# Altium integrated library Resistors.IntLib: 4954 symbols (part 8 of 32)
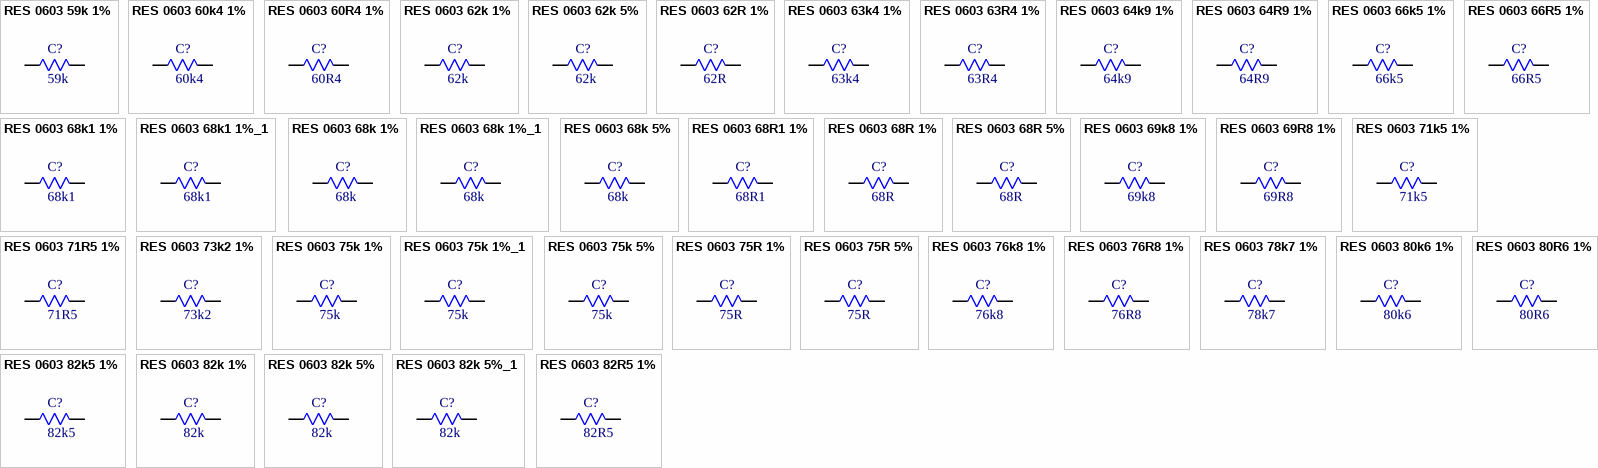
[diagram p130: symbols RES 0603 59k 1% to RES 0603 82R5 1%]

## RES 0603 82k 1%
designator C?, comment 82k
82kR 1% 100mW 0603 Thick Film Resistor; Manufacturer: FOJAN; Manufacturer Part Number: FRC0603F8202TS; Voltage Rating: 75V; Supplier: LCSC; Supplier Part Number: C2907072; Resistance: 82k; Tolerance: 1%; Power: 100mW
footprint RES SMD 0603
pins: 1, 2

## RES 0603 82k 5%
designator C?, comment 82k
82kR 5% 100mW 0603 Thick Film Resistor; Manufacturer: FOJAN; Manufacturer Part Number: FRC0603J823 TS; Voltage Rating: 75V; Supplier: LCSC; Supplier Part Number: C2907208; Resistance: 82k; Tolerance: 5%; Power: 100mW
footprint RES SMD 0603
pins: 1, 2

## RES 0603 82k 5%_1
designator C?, comment 82k
100mW 82kR 75V Thick Film Resistor 100ppm/â„ƒ 5% 0603 Chip Resistor - Surface Mount RoHS; Manufacturer: FOJAN; Manufacturer Part Number: FRR0603J823 TS; Supplier: LCSC; Supplier Part Number: C49196819; Resistance: 82k; Tolerance: 5%; Voltage Rating: 75V; Power: 100mW
footprint RES SMD 0603
pins: 1, 2

## RES 0603 82R5 1%
designator C?, comment 82R5
82.5R 1% 100mW 0603 Thick Film Resistor; Manufacturer: FOJAN; Manufacturer Part Number: FRC0603F82R5TS; Voltage Rating: 75V; Supplier: LCSC; Supplier Part Number: C3013207; Resistance: 82R5; Tolerance: 1%; Power: 100mW
footprint RES SMD 0603
pins: 1, 2

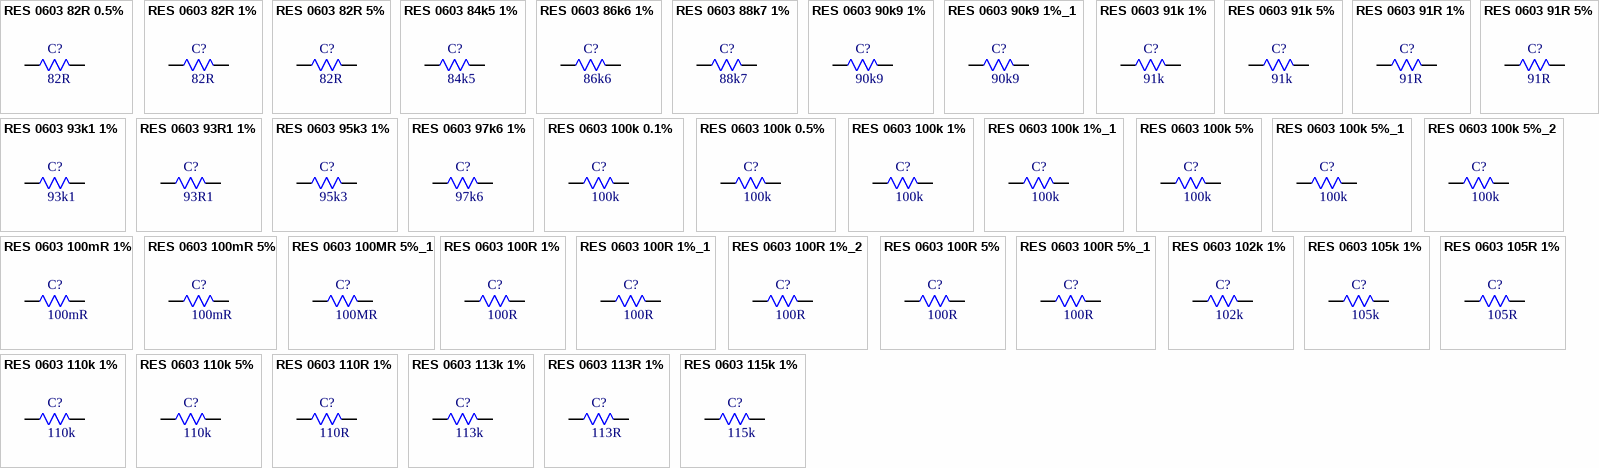
[diagram p28: symbols RES 0603 82R 0.5% to RES 0603 115k 1%]

## RES 0603 82R 0.5%
designator C?, comment 82R
100mW 82R 75V Thick Film Resistor 0.5% 0603 Chip Resistor - Surface Mount RoHS; Manufacturer: FOJAN; Manufacturer Part Number: FRH0603D82R0TS; Supplier: LCSC; Supplier Part Number: C52033556; Resistance: 82R; Tolerance: 0.5%; Voltage Rating: 75V; Power: 100mW
footprint RES SMD 0603
pins: 1, 2

## RES 0603 82R 1%
designator C?, comment 82R
82R 1% 100mW 0603 Thick Film Resistor; Manufacturer: FOJAN; Manufacturer Part Number: FRC0603F82R0TS; Voltage Rating: 75V; Supplier: LCSC; Supplier Part Number: C2907073; Resistance: 82R; Tolerance: 1%; Power: 100mW
footprint RES SMD 0603
pins: 1, 2

## RES 0603 82R 5%
designator C?, comment 82R
82R 5% 100mW 0603 Thick Film Resistor; Manufacturer: FOJAN; Manufacturer Part Number: FRC0603J820 TS; Voltage Rating: 75V; Supplier: LCSC; Supplier Part Number: C2907209; Resistance: 82R; Tolerance: 5%; Power: 100mW
footprint RES SMD 0603
pins: 1, 2

## RES 0603 84k5 1%
designator C?, comment 84k5
84.5kR 1% 100mW 0603 Thick Film Resistor; Manufacturer: FOJAN; Manufacturer Part Number: FRC0603F8452TS; Voltage Rating: 75V; Supplier: LCSC; Supplier Part Number: C2998081; Resistance: 84k5; Tolerance: 1%; Power: 100mW
footprint RES SMD 0603
pins: 1, 2

## RES 0603 86k6 1%
designator C?, comment 86k6
86.6kR 1% 100mW 0603 Thick Film Resistor; Manufacturer: FOJAN; Manufacturer Part Number: FRC0603F8662TS; Voltage Rating: 75V; Supplier: LCSC; Supplier Part Number: C3000725; Resistance: 86k6; Tolerance: 1%; Power: 100mW
footprint RES SMD 0603
pins: 1, 2

## RES 0603 88k7 1%
designator C?, comment 88k7
88.7kR 1% 100mW 0603 Thick Film Resistor; Manufacturer: FOJAN; Manufacturer Part Number: FRC0603F8872TS; Voltage Rating: 75V; Supplier: LCSC; Supplier Part Number: C2999456; Resistance: 88k7; Tolerance: 1%; Power: 100mW
footprint RES SMD 0603
pins: 1, 2

## RES 0603 90k9 1%
designator C?, comment 90k9
90.9kR 1% 100mW 0603 Thick Film Resistor; Manufacturer: FOJAN; Manufacturer Part Number: FRC0603F9092TS; Voltage Rating: 75V; Supplier: LCSC; Supplier Part Number: C2930136; Resistance: 90k9; Tolerance: 1%; Power: 100mW
footprint RES SMD 0603
pins: 1, 2

## RES 0603 90k9 1%_1
designator C?, comment 90k9
90.9kR 100mW 75V Thick Film Resistor 100ppm/â„ƒ 1% 0603 Chip Resistor - Surface Mount RoHS; Manufacturer: FOJAN; Manufacturer Part Number: FRQ0603F9092TS; Supplier: LCSC; Supplier Part Number: C48533780; Resistance: 90k9; Tolerance: 1%; Voltage Rating: 75V; Power: 100mW
footprint RES SMD 0603
pins: 1, 2

## RES 0603 91k 1%
designator C?, comment 91k
91kR 1% 100mW 0603 Thick Film Resistor; Manufacturer: FOJAN; Manufacturer Part Number: FRC0603F9102TS; Voltage Rating: 75V; Supplier: LCSC; Supplier Part Number: C2907077; Resistance: 91k; Tolerance: 1%; Power: 100mW
footprint RES SMD 0603
pins: 1, 2

## RES 0603 91k 5%
designator C?, comment 91k
91kR 5% 100mW 0603 Thick Film Resistor; Manufacturer: FOJAN; Manufacturer Part Number: FRC0603J913 TS; Voltage Rating: 75V; Supplier: LCSC; Supplier Part Number: C2907213; Resistance: 91k; Tolerance: 5%; Power: 100mW
footprint RES SMD 0603
pins: 1, 2

## RES 0603 91R 1%
designator C?, comment 91R
91R 1% 100mW 0603 Thick Film Resistor; Manufacturer: FOJAN; Manufacturer Part Number: FRC0603F91R0TS; Voltage Rating: 75V; Supplier: LCSC; Supplier Part Number: C2960792; Resistance: 91R; Tolerance: 1%; Power: 100mW
footprint RES SMD 0603
pins: 1, 2

## RES 0603 91R 5%
designator C?, comment 91R
91R 5% 100mW 0603 Thick Film Resistor; Manufacturer: FOJAN; Manufacturer Part Number: FRC0603J910 TS; Voltage Rating: 75V; Supplier: LCSC; Supplier Part Number: C2907214; Resistance: 91R; Tolerance: 5%; Power: 100mW
footprint RES SMD 0603
pins: 1, 2

## RES 0603 93k1 1%
designator C?, comment 93k1
93.1kR 1% 100mW 0603 Thick Film Resistor; Manufacturer: FOJAN; Manufacturer Part Number: FRC0603F9312TS; Voltage Rating: 75V; Supplier: LCSC; Supplier Part Number: C2933266; Resistance: 93k1; Tolerance: 1%; Power: 100mW
footprint RES SMD 0603
pins: 1, 2

## RES 0603 93R1 1%
designator C?, comment 93R1
93.1R 1% 100mW 0603 Thick Film Resistor; Manufacturer: FOJAN; Manufacturer Part Number: FRC0603F93R1TS; Voltage Rating: 75V; Supplier: LCSC; Supplier Part Number: C2930137; Resistance: 93R1; Tolerance: 1%; Power: 100mW
footprint RES SMD 0603
pins: 1, 2

## RES 0603 95k3 1%
designator C?, comment 95k3
95.3kR 1% 100mW 0603 Thick Film Resistor; Manufacturer: FOJAN; Manufacturer Part Number: FRC0603F9532TS; Voltage Rating: 75V; Supplier: LCSC; Supplier Part Number: C2907078; Resistance: 95k3; Tolerance: 1%; Power: 100mW
footprint RES SMD 0603
pins: 1, 2

## RES 0603 97k6 1%
designator C?, comment 97k6
97.6kR 1% 100mW 0603 Thick Film Resistor; Manufacturer: FOJAN; Manufacturer Part Number: FRC0603F9762TS; Voltage Rating: 75V; Supplier: LCSC; Supplier Part Number: C2907079; Resistance: 97k6; Tolerance: 1%; Power: 100mW
footprint RES SMD 0603
pins: 1, 2

## RES 0603 100k 0.1%
designator C?, comment 100k
100mW 100kR 75V Thick Film Resistor 0.1% 0603 Chip Resistor - Surface Mount RoHS; Manufacturer: FOJAN; Manufacturer Part Number: FRH0603B1003TS; Supplier: LCSC; Supplier Part Number: C51048211; Resistance: 100k; Tolerance: 0.1%; Voltage Rating: 75V; Power: 100mW
footprint RES SMD 0603
pins: 1, 2

## RES 0603 100k 0.5%
designator C?, comment 100k
100mW 100kR 75V Thick Film Resistor 0.5% 0603 Chip Resistor - Surface Mount RoHS; Manufacturer: FOJAN; Manufacturer Part Number: FRH0603D1003TS; Supplier: LCSC; Supplier Part Number: C51048119; Resistance: 100k; Tolerance: 0.5%; Voltage Rating: 75V; Power: 100mW
footprint RES SMD 0603
pins: 1, 2

## RES 0603 100k 1%
designator C?, comment 100k
100kR 1% 100mW 0603 Thick Film Resistor; Manufacturer: FOJAN; Manufacturer Part Number: FRC0603F1003TS; Voltage Rating: 75V; Supplier: LCSC; Supplier Part Number: C2906980; Resistance: 100k; Tolerance: 1%; Power: 100mW
footprint RES SMD 0603
pins: 1, 2

## RES 0603 100k 1%_1
designator C?, comment 100k
100mW 100kR Thick Film Resistor 1% 100ppm/â„ƒ 0603 Chip Resistor - Surface Mount RoHS; Manufacturer: FOJAN; Manufacturer Part Number: FRQ0603F1003TS; Supplier: LCSC; Supplier Part Number: C7468513; Resistance: 100k; Tolerance: 1%; Power: 100mW
footprint RES SMD 0603
pins: 1, 2

## RES 0603 100k 5%
designator C?, comment 100k
100kR 5% 100mW 0603 Thick Film Resistor AEC-Q200; Manufacturer: FOJAN; Manufacturer Part Number: FRQ0603J104 TS; Voltage Rating: 75V; Supplier: LCSC; Supplier Part Number: C2934392; Resistance: 100k; Tolerance: 5%; Power: 100mW
footprint RES SMD 0603
pins: 1, 2

## RES 0603 100k 5%_1
designator C?, comment 100k
100kR 5% 100mW 0603 Thick Film Resistor; Manufacturer: FOJAN; Manufacturer Part Number: FRC0603J104 TS; Voltage Rating: 75V; Supplier: LCSC; Supplier Part Number: C2907088; Resistance: 100k; Tolerance: 5%; Power: 100mW
footprint RES SMD 0603
pins: 1, 2

## RES 0603 100k 5%_2
designator C?, comment 100k
100mW 100kR 75V Thick Film Resistor 100ppm/â„ƒ 5% 0603 Chip Resistor - Surface Mount RoHS; Manufacturer: FOJAN; Manufacturer Part Number: FRR0603J104 TS; Supplier: LCSC; Supplier Part Number: C49196787; Resistance: 100k; Tolerance: 5%; Voltage Rating: 75V; Power: 100mW
footprint RES SMD 0603
pins: 1, 2

## RES 0603 100mR 1%
designator C?, comment 100mR
100mR 1% 100mW 0603 Thick Film Resistor; Manufacturer: FOJAN; Manufacturer Part Number: FRL0603FR100TS; Voltage Rating: 100V; Supplier: LCSC; Supplier Part Number: C3013345; Resistance: 100mR; Tolerance: 1%; Power: 100mW
footprint RES SMD 0603
pins: 1, 2

## RES 0603 100mR 5%
designator C?, comment 100mR
100mR 5% 100mW 0603 Thick Film Resistor; Manufacturer: FOJAN; Manufacturer Part Number: FRL0603JR100TS; Voltage Rating: 100V; Supplier: LCSC; Supplier Part Number: C2934255; Resistance: 100mR; Tolerance: 5%; Power: 100mW
footprint RES SMD 0603
pins: 1, 2

## RES 0603 100MR 5%_1
designator C?, comment 100MR
100mW 100MR Thick Film Resistor 200ppm/â„ƒ 5% 0603 Chip Resistor - Surface Mount RoHS; Manufacturer: FOJAN; Manufacturer Part Number: FRG0603J107 TS; Supplier: LCSC; Supplier Part Number: C7468687; Resistance: 100MR; Tolerance: 5%; Power: 100mW
footprint RES SMD 0603
pins: 1, 2

## RES 0603 100R 1%
designator C?, comment 100R
100R 1% 100mW 0603 Thick Film Resistor; Manufacturer: FOJAN; Manufacturer Part Number: FRC0603F1000TS; Voltage Rating: 75V; Supplier: LCSC; Supplier Part Number: C2906981; Resistance: 100R; Tolerance: 1%; Power: 100mW
footprint RES SMD 0603
pins: 1, 2

## RES 0603 100R 1%_1
designator C?, comment 100R
200mW 100R Thick Film Resistor 100ppm/â„ƒ 1% 0603 Chip Resistor - Surface Mount RoHS; Manufacturer: FOJAN; Manufacturer Part Number: FRP0603F1000TS; Supplier: LCSC; Supplier Part Number: C42372212; Resistance: 100R; Tolerance: 1%; Power: 200mW
footprint RES SMD 0603
pins: 1, 2

## RES 0603 100R 1%_2
designator C?, comment 100R
100mW 100R 75V Thick Film Resistor 1% 0603 Chip Resistor - Surface Mount RoHS; Manufacturer: FOJAN; Manufacturer Part Number: FRR0603F1000TS; Supplier: LCSC; Supplier Part Number: C51048231; Resistance: 100R; Tolerance: 1%; Voltage Rating: 75V; Power: 100mW
footprint RES SMD 0603
pins: 1, 2

## RES 0603 100R 5%
designator C?, comment 100R
100mW 100R 75V Thick Film Resistor 5% 100ppm/â„ƒ 0603 Chip Resistor - Surface Mount RoHS; Manufacturer: FOJAN; Manufacturer Part Number: FRQ0603J101 TS; Supplier: LCSC; Supplier Part Number: C7468429; Resistance: 100R; Tolerance: 5%; Voltage Rating: 75V; Power: 100mW
footprint RES SMD 0603
pins: 1, 2

## RES 0603 100R 5%_1
designator C?, comment 100R
100R 100mW 75V Thick Film Resistor 100ppm/â„ƒ 5% 0603 Chip Resistor - Surface Mount RoHS; Manufacturer: FOJAN; Manufacturer Part Number: FRR0603J101 TS; Supplier: LCSC; Supplier Part Number: C49196788; Resistance: 100R; Tolerance: 5%; Voltage Rating: 75V; Power: 100mW
footprint RES SMD 0603
pins: 1, 2

## RES 0603 102k 1%
designator C?, comment 102k
102kR 1% 100mW 0603 Thick Film Resistor; Manufacturer: FOJAN; Manufacturer Part Number: FRC0603F1023TS; Voltage Rating: 75V; Supplier: LCSC; Supplier Part Number: C2933126; Resistance: 102k; Tolerance: 1%; Power: 100mW
footprint RES SMD 0603
pins: 1, 2

## RES 0603 105k 1%
designator C?, comment 105k
105kR 1% 100mW 0603 Thick Film Resistor; Manufacturer: FOJAN; Manufacturer Part Number: FRC0603F1053TS; Voltage Rating: 75V; Supplier: LCSC; Supplier Part Number: C2933128; Resistance: 105k; Tolerance: 1%; Power: 100mW
footprint RES SMD 0603
pins: 1, 2

## RES 0603 105R 1%
designator C?, comment 105R
105R 1% 100mW 0603 Thick Film Resistor; Manufacturer: FOJAN; Manufacturer Part Number: FRC0603F1050TS; Voltage Rating: 75V; Supplier: LCSC; Supplier Part Number: C2930055; Resistance: 105R; Tolerance: 1%; Power: 100mW
footprint RES SMD 0603
pins: 1, 2

## RES 0603 110k 1%
designator C?, comment 110k
110kR 1% 100mW 0603 Thick Film Resistor; Manufacturer: FOJAN; Manufacturer Part Number: FRC0603F1103TS; Voltage Rating: 75V; Supplier: LCSC; Supplier Part Number: C2906984; Resistance: 110k; Tolerance: 1%; Power: 100mW
footprint RES SMD 0603
pins: 1, 2

## RES 0603 110k 5%
designator C?, comment 110k
110kR 5% 100mW 0603 Thick Film Resistor; Manufacturer: FOJAN; Manufacturer Part Number: FRC0603J114TS; Voltage Rating: 75V; Supplier: LCSC; Supplier Part Number: C2930028; Resistance: 110k; Tolerance: 5%; Power: 100mW
footprint RES SMD 0603
pins: 1, 2

## RES 0603 110R 1%
designator C?, comment 110R
110R 1% 100mW 0603 Thick Film Resistor; Manufacturer: FOJAN; Manufacturer Part Number: FRC0603F1100TS; Voltage Rating: 75V; Supplier: LCSC; Supplier Part Number: C2906985; Resistance: 110R; Tolerance: 1%; Power: 100mW
footprint RES SMD 0603
pins: 1, 2

## RES 0603 113k 1%
designator C?, comment 113k
113kR 1% 100mW 0603 Thick Film Resistor; Manufacturer: FOJAN; Manufacturer Part Number: FRC0603F1133TS; Voltage Rating: 75V; Supplier: LCSC; Supplier Part Number: C2933131; Resistance: 113k; Tolerance: 1%; Power: 100mW
footprint RES SMD 0603
pins: 1, 2

## RES 0603 113R 1%
designator C?, comment 113R
100mW 113R 75V Thick Film Resistor 100ppm/â„ƒ 1% 0603 Chip Resistor - Surface Mount RoHS; Manufacturer: FOJAN; Manufacturer Part Number: FRC0603F1130TS; Supplier: LCSC; Supplier Part Number: C49010135; Resistance: 113R; Tolerance: 1%; Voltage Rating: 75V; Power: 100mW
footprint RES SMD 0603
pins: 1, 2

## RES 0603 115k 1%
designator C?, comment 115k
115kR 1% 100mW 0603 Thick Film Resistor; Manufacturer: FOJAN; Manufacturer Part Number: FRC0603F1153TS; Voltage Rating: 75V; Supplier: LCSC; Supplier Part Number: C2933132; Resistance: 115k; Tolerance: 1%; Power: 100mW
footprint RES SMD 0603
pins: 1, 2

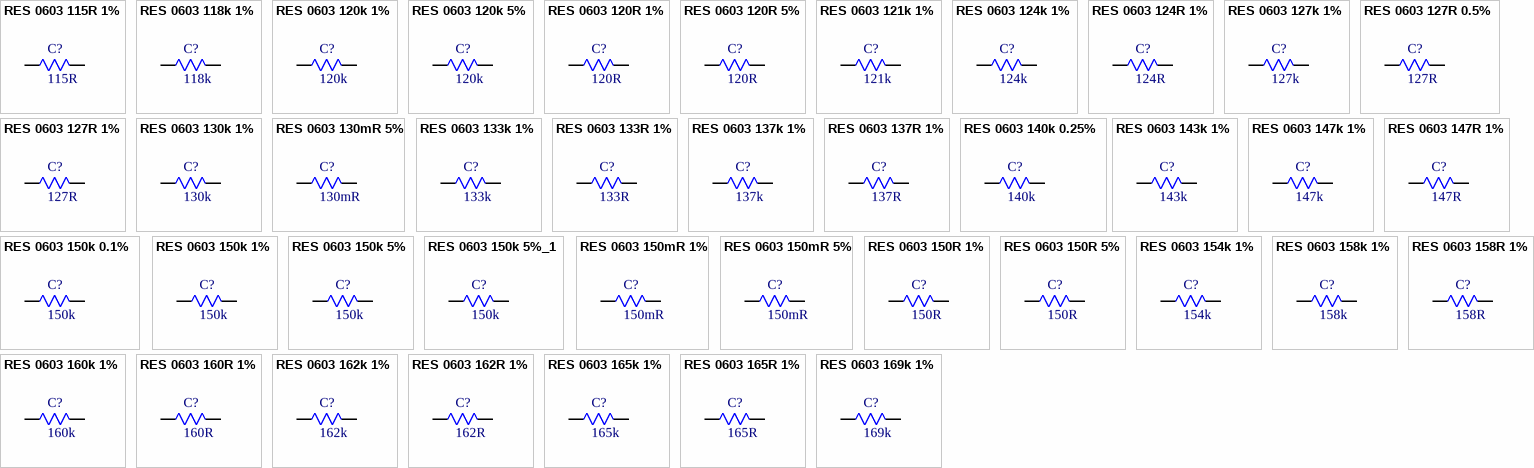
[diagram p29: symbols RES 0603 115R 1% to RES 0603 169k 1%]

## RES 0603 115R 1%
designator C?, comment 115R
115R 100mW 75V Thick Film Resistor 1% 100ppm/â„ƒ 0603 Chip Resistor - Surface Mount RoHS; Manufacturer: FOJAN; Manufacturer Part Number: FRC0603F1150TS; Supplier: LCSC; Supplier Part Number: C7467328; Resistance: 115R; Tolerance: 1%; Voltage Rating: 75V; Power: 100mW
footprint RES SMD 0603
pins: 1, 2

## RES 0603 118k 1%
designator C?, comment 118k
118kR 1% 100mW 0603 Thick Film Resistor; Manufacturer: FOJAN; Manufacturer Part Number: FRC0603F1183TS; Voltage Rating: 75V; Supplier: LCSC; Supplier Part Number: C5126230; Resistance: 118k; Tolerance: 1%; Power: 100mW
footprint RES SMD 0603
pins: 1, 2

## RES 0603 120k 1%
designator C?, comment 120k
120kR 1% 100mW 0603 Thick Film Resistor; Manufacturer: FOJAN; Manufacturer Part Number: FRC0603F1203TS; Voltage Rating: 75V; Supplier: LCSC; Supplier Part Number: C2906987; Resistance: 120k; Tolerance: 1%; Power: 100mW
footprint RES SMD 0603
pins: 1, 2

## RES 0603 120k 5%
designator C?, comment 120k
120kR 5% 100mW 0603 Thick Film Resistor; Manufacturer: FOJAN; Manufacturer Part Number: FRC0603J124 TS; Voltage Rating: 75V; Supplier: LCSC; Supplier Part Number: C2907095; Resistance: 120k; Tolerance: 5%; Power: 100mW
footprint RES SMD 0603
pins: 1, 2

## RES 0603 120R 1%
designator C?, comment 120R
120R 1% 100mW 0603 Thick Film Resistor; Manufacturer: FOJAN; Manufacturer Part Number: FRC0603F1200TS; Voltage Rating: 75V; Supplier: LCSC; Supplier Part Number: C2906988; Resistance: 120R; Tolerance: 1%; Power: 100mW
footprint RES SMD 0603
pins: 1, 2

## RES 0603 120R 5%
designator C?, comment 120R
120R 5% 100mW 0603 Thick Film Resistor; Manufacturer: FOJAN; Manufacturer Part Number: FRC0603J121 TS; Voltage Rating: 75V; Supplier: LCSC; Supplier Part Number: C2907096; Resistance: 120R; Tolerance: 5%; Power: 100mW
footprint RES SMD 0603
pins: 1, 2

## RES 0603 121k 1%
designator C?, comment 121k
121kR 1% 100mW 0603 Thick Film Resistor; Manufacturer: FOJAN; Manufacturer Part Number: FRC0603F1213TS; Voltage Rating: 75V; Supplier: LCSC; Supplier Part Number: C2974025; Resistance: 121k; Tolerance: 1%; Power: 100mW
footprint RES SMD 0603
pins: 1, 2

## RES 0603 124k 1%
designator C?, comment 124k
124kR 1% 100mW 0603 Thick Film Resistor; Manufacturer: FOJAN; Manufacturer Part Number: FRC0603F1243TS; Voltage Rating: 75V; Supplier: LCSC; Supplier Part Number: C2933136; Resistance: 124k; Tolerance: 1%; Power: 100mW
footprint RES SMD 0603
pins: 1, 2

## RES 0603 124R 1%
designator C?, comment 124R
124R 1% 100mW 0603 Thick Film Resistor; Manufacturer: FOJAN; Manufacturer Part Number: FRC0603F1240TS; Voltage Rating: 75V; Supplier: LCSC; Supplier Part Number: C2998112; Resistance: 124R; Tolerance: 1%; Power: 100mW
footprint RES SMD 0603
pins: 1, 2

## RES 0603 127k 1%
designator C?, comment 127k
127kR 1% 100mW 0603 Thick Film Resistor; Manufacturer: FOJAN; Manufacturer Part Number: FRC0603F1273TS; Voltage Rating: 75V; Supplier: LCSC; Supplier Part Number: C2930062; Resistance: 127k; Tolerance: 1%; Power: 100mW
footprint RES SMD 0603
pins: 1, 2

## RES 0603 127R 0.5%
designator C?, comment 127R
127R 100mW 75V Thick Film Resistor 0.5% 0603 Chip Resistor - Surface Mount RoHS; Manufacturer: FOJAN; Manufacturer Part Number: FRH0603D1270TS; Supplier: LCSC; Supplier Part Number: C52033535; Resistance: 127R; Tolerance: 0.5%; Voltage Rating: 75V; Power: 100mW
footprint RES SMD 0603
pins: 1, 2

## RES 0603 127R 1%
designator C?, comment 127R
127R 1% 100mW 0603 Thick Film Resistor; Manufacturer: FOJAN; Manufacturer Part Number: FRC0603F1270TS; Voltage Rating: 75V; Supplier: LCSC; Supplier Part Number: C2930063; Resistance: 127R; Tolerance: 1%; Power: 100mW
footprint RES SMD 0603
pins: 1, 2

## RES 0603 130k 1%
designator C?, comment 130k
130kR 1% 100mW 0603 Thick Film Resistor; Manufacturer: FOJAN; Manufacturer Part Number: FRC0603F1303TS; Voltage Rating: 75V; Supplier: LCSC; Supplier Part Number: C2906991; Resistance: 130k; Tolerance: 1%; Power: 100mW
footprint RES SMD 0603
pins: 1, 2

## RES 0603 130mR 5%
designator C?, comment 130mR
130mR 100mW Thick Film Resistor 5% 600ppm/â„ƒ 0603 Chip Resistor - Surface Mount RoHS; Manufacturer: FOJAN; Manufacturer Part Number: FRL0603JR130TS; Supplier: LCSC; Supplier Part Number: C7467759; Resistance: 130mR; Tolerance: 5%; Power: 100mW
footprint RES SMD 0603
pins: 1, 2

## RES 0603 133k 1%
designator C?, comment 133k
133kR 1% 100mW 0603 Thick Film Resistor; Manufacturer: FOJAN; Manufacturer Part Number: FRC0603F1333TS; Voltage Rating: 75V; Supplier: LCSC; Supplier Part Number: C2933141; Resistance: 133k; Tolerance: 1%; Power: 100mW
footprint RES SMD 0603
pins: 1, 2

## RES 0603 133R 1%
designator C?, comment 133R
133R 1% 100mW 0603 Thick Film Resistor; Manufacturer: FOJAN; Manufacturer Part Number: FRC0603F1330TS; Voltage Rating: 75V; Supplier: LCSC; Supplier Part Number: C5126161; Resistance: 133R; Tolerance: 1%; Power: 100mW
footprint RES SMD 0603
pins: 1, 2

## RES 0603 137k 1%
designator C?, comment 137k
137kR 1% 100mW 0603 Thick Film Resistor; Manufacturer: FOJAN; Manufacturer Part Number: FRC0603F1373TS; Voltage Rating: 75V; Supplier: LCSC; Supplier Part Number: C2998109; Resistance: 137k; Tolerance: 1%; Power: 100mW
footprint RES SMD 0603
pins: 1, 2

## RES 0603 137R 1%
designator C?, comment 137R
137R 1% 100mW 0603 Thick Film Resistor; Manufacturer: FOJAN; Manufacturer Part Number: FRC0603F1370TS; Voltage Rating: 75V; Supplier: LCSC; Supplier Part Number: C5159696; Resistance: 137R; Tolerance: 1%; Power: 100mW
footprint RES SMD 0603
pins: 1, 2

## RES 0603 140k 0.25%
designator C?, comment 140k
100mW 140kR Thick Film Resistor 100ppm/â„ƒ 0.25% 0603 Chip Resistor - Surface Mount RoHS; Manufacturer: FOJAN; Manufacturer Part Number: FRH0603D1403TS; Supplier: LCSC; Supplier Part Number: C42372204; Resistance: 140k; Tolerance: 0.25%; Power: 100mW
footprint RES SMD 0603
pins: 1, 2

## RES 0603 143k 1%
designator C?, comment 143k
143kR 1% 100mW 0603 Thick Film Resistor; Manufacturer: FOJAN; Manufacturer Part Number: FRC0603F1433TS; Voltage Rating: 75V; Supplier: LCSC; Supplier Part Number: C2933146; Resistance: 143k; Tolerance: 1%; Power: 100mW
footprint RES SMD 0603
pins: 1, 2

## RES 0603 147k 1%
designator C?, comment 147k
147kR 1% 100mW 0603 Thick Film Resistor; Manufacturer: FOJAN; Manufacturer Part Number: FRC0603F1473TS; Voltage Rating: 75V; Supplier: LCSC; Supplier Part Number: C2998060; Resistance: 147k; Tolerance: 1%; Power: 100mW
footprint RES SMD 0603
pins: 1, 2

## RES 0603 147R 1%
designator C?, comment 147R
147R 1% 100mW 0603 Thick Film Resistor; Manufacturer: FOJAN; Manufacturer Part Number: FRC0603F1470TS; Voltage Rating: 75V; Supplier: LCSC; Supplier Part Number: C2930065; Resistance: 147R; Tolerance: 1%; Power: 100mW
footprint RES SMD 0603
pins: 1, 2

## RES 0603 150k 0.1%
designator C?, comment 150k
150kR 0.1% 100mW 0603 Thick Film Resistor; Manufacturer: FOJAN; Manufacturer Part Number: FRH0603B1503TS; Voltage Rating: 75V; Supplier: LCSC; Supplier Part Number: C5713384; Resistance: 150k; Tolerance: 0.1%; Power: 100mW
footprint RES SMD 0603
pins: 1, 2

## RES 0603 150k 1%
designator C?, comment 150k
150kR 1% 100mW 0603 Thick Film Resistor; Manufacturer: FOJAN; Manufacturer Part Number: FRC0603F1503TS; Voltage Rating: 75V; Supplier: LCSC; Supplier Part Number: C2906993; Resistance: 150k; Tolerance: 1%; Power: 100mW
footprint RES SMD 0603
pins: 1, 2

## RES 0603 150k 5%
designator C?, comment 150k
150kR 5% 100mW 0603 Thick Film Resistor; Manufacturer: FOJAN; Manufacturer Part Number: FRC0603J154 TS; Voltage Rating: 75V; Supplier: LCSC; Supplier Part Number: C2907102; Resistance: 150k; Tolerance: 5%; Power: 100mW
footprint RES SMD 0603
pins: 1, 2

## RES 0603 150k 5%_1
designator C?, comment 150k
150kR 100mW 75V Thick Film Resistor 100ppm/â„ƒ 5% 0603 Chip Resistor - Surface Mount RoHS; Manufacturer: FOJAN; Manufacturer Part Number: FRR0603J154 TS; Supplier: LCSC; Supplier Part Number: C49196791; Resistance: 150k; Tolerance: 5%; Voltage Rating: 75V; Power: 100mW
footprint RES SMD 0603
pins: 1, 2

## RES 0603 150mR 1%
designator C?, comment 150mR
150mR 1% 100mW 0603 Thick Film Resistor; Manufacturer: FOJAN; Manufacturer Part Number: FRL0603FR150TS; Voltage Rating: 100V; Supplier: LCSC; Supplier Part Number: C5126016; Resistance: 150mR; Tolerance: 1%; Power: 100mW
footprint RES SMD 0603
pins: 1, 2

## RES 0603 150mR 5%
designator C?, comment 150mR
150mR 100mW Thick Film Resistor 5% 600ppm/â„ƒ 0603 Chip Resistor - Surface Mount RoHS; Manufacturer: FOJAN; Manufacturer Part Number: FRL0603JR150TS; Supplier: LCSC; Supplier Part Number: C7467755; Resistance: 150mR; Tolerance: 5%; Power: 100mW
footprint RES SMD 0603
pins: 1, 2

## RES 0603 150R 1%
designator C?, comment 150R
150R 1% 100mW 0603 Thick Film Resistor; Manufacturer: FOJAN; Manufacturer Part Number: FRC0603F1500TS; Voltage Rating: 75V; Supplier: LCSC; Supplier Part Number: C2906994; Resistance: 150R; Tolerance: 1%; Power: 100mW
footprint RES SMD 0603
pins: 1, 2

## RES 0603 150R 5%
designator C?, comment 150R
150R 5% 100mW 0603 Thick Film Resistor; Manufacturer: FOJAN; Manufacturer Part Number: FRC0603J151 TS; Voltage Rating: 75V; Supplier: LCSC; Supplier Part Number: C2907103; Resistance: 150R; Tolerance: 5%; Power: 100mW
footprint RES SMD 0603
pins: 1, 2

## RES 0603 154k 1%
designator C?, comment 154k
154kR 1% 100mW 0603 Thick Film Resistor; Manufacturer: FOJAN; Manufacturer Part Number: FRC0603F1543TS; Voltage Rating: 75V; Supplier: LCSC; Supplier Part Number: C5713279; Resistance: 154k; Tolerance: 1%; Power: 100mW
footprint RES SMD 0603
pins: 1, 2

## RES 0603 158k 1%
designator C?, comment 158k
158kR 1% 100mW 0603 Thick Film Resistor; Manufacturer: FOJAN; Manufacturer Part Number: FRC0603F1583TS; Voltage Rating: 75V; Supplier: LCSC; Supplier Part Number: C2974029; Resistance: 158k; Tolerance: 1%; Power: 100mW
footprint RES SMD 0603
pins: 1, 2

## RES 0603 158R 1%
designator C?, comment 158R
158R 1% 100mW 0603 Thick Film Resistor; Manufacturer: FOJAN; Manufacturer Part Number: FRC0603F1580TS; Voltage Rating: 75V; Supplier: LCSC; Supplier Part Number: C2933151; Resistance: 158R; Tolerance: 1%; Power: 100mW
footprint RES SMD 0603
pins: 1, 2

## RES 0603 160k 1%
designator C?, comment 160k
160kR 1% 100mW 0603 Thick Film Resistor; Manufacturer: FOJAN; Manufacturer Part Number: FRC0603F1603TS; Voltage Rating: 75V; Supplier: LCSC; Supplier Part Number: C2930068; Resistance: 160k; Tolerance: 1%; Power: 100mW
footprint RES SMD 0603
pins: 1, 2

## RES 0603 160R 1%
designator C?, comment 160R
160R 1% 100mW 0603 Thick Film Resistor; Manufacturer: FOJAN; Manufacturer Part Number: FRC0603F1600TS; Voltage Rating: 75V; Supplier: LCSC; Supplier Part Number: C2933152; Resistance: 160R; Tolerance: 1%; Power: 100mW
footprint RES SMD 0603
pins: 1, 2

## RES 0603 162k 1%
designator C?, comment 162k
162kR 1% 100mW 0603 Thick Film Resistor; Manufacturer: FOJAN; Manufacturer Part Number: FRC0603F1623TS; Voltage Rating: 75V; Supplier: LCSC; Supplier Part Number: C2998114; Resistance: 162k; Tolerance: 1%; Power: 100mW
footprint RES SMD 0603
pins: 1, 2

## RES 0603 162R 1%
designator C?, comment 162R
162R 100mW 75V Thick Film Resistor 1% 100ppm/â„ƒ 0603 Chip Resistor - Surface Mount RoHS; Manufacturer: FOJAN; Manufacturer Part Number: FRC0603F1620TS; Supplier: LCSC; Supplier Part Number: C19268613; Resistance: 162R; Tolerance: 1%; Voltage Rating: 75V; Power: 100mW
footprint RES SMD 0603
pins: 1, 2

## RES 0603 165k 1%
designator C?, comment 165k
165kR 1% 100mW 0603 Thick Film Resistor; Manufacturer: FOJAN; Manufacturer Part Number: FRC0603F1653TS; Voltage Rating: 75V; Supplier: LCSC; Supplier Part Number: C2933156; Resistance: 165k; Tolerance: 1%; Power: 100mW
footprint RES SMD 0603
pins: 1, 2

## RES 0603 165R 1%
designator C?, comment 165R
100mW 165R 75V Thick Film Resistor 100ppm/â„ƒ 1% 0603 Chip Resistor - Surface Mount RoHS; Manufacturer: FOJAN; Manufacturer Part Number: FRC0603F1650TS; Supplier: LCSC; Supplier Part Number: C49196867; Resistance: 165R; Tolerance: 1%; Voltage Rating: 75V; Power: 100mW
footprint RES SMD 0603
pins: 1, 2

## RES 0603 169k 1%
designator C?, comment 169k
169kR 1% 100mW 0603 Thick Film Resistor; Manufacturer: FOJAN; Manufacturer Part Number: FRC0603F1693TS; Voltage Rating: 75V; Supplier: LCSC; Supplier Part Number: C3013192; Resistance: 169k; Tolerance: 1%; Power: 100mW
footprint RES SMD 0603
pins: 1, 2

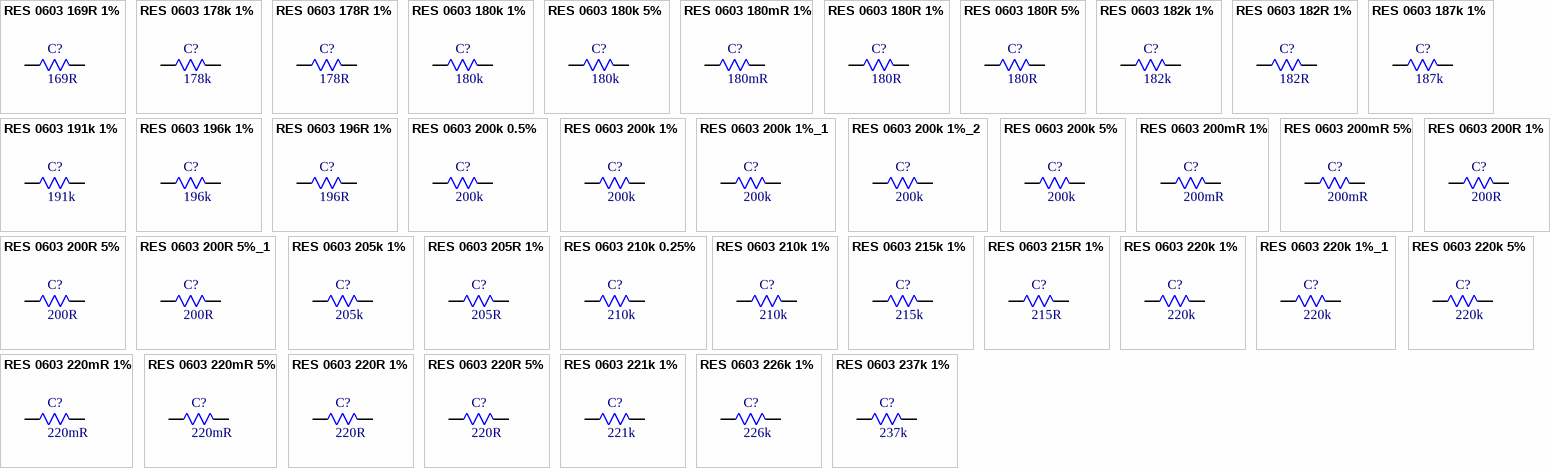
[diagram p30: symbols RES 0603 169R 1% to RES 0603 237k 1%]

## RES 0603 169R 1%
designator C?, comment 169R
169R 100mW 75V Thick Film Resistor 100ppm/â„ƒ 1% 0603 Chip Resistor - Surface Mount RoHS; Manufacturer: FOJAN; Manufacturer Part Number: FRC0603F1690TS; Supplier: LCSC; Supplier Part Number: C22375117; Resistance: 169R; Tolerance: 1%; Voltage Rating: 75V; Power: 100mW
footprint RES SMD 0603
pins: 1, 2

## RES 0603 178k 1%
designator C?, comment 178k
178kR 100mW 75V Thick Film Resistor 100ppm/â„ƒ 1% 0603 Chip Resistor - Surface Mount RoHS; Manufacturer: FOJAN; Manufacturer Part Number: FRC0603F1783TS; Supplier: LCSC; Supplier Part Number: C48533690; Resistance: 178k; Tolerance: 1%; Voltage Rating: 75V; Power: 100mW
footprint RES SMD 0603
pins: 1, 2

## RES 0603 178R 1%
designator C?, comment 178R
178R 1% 100mW 0603 Thick Film Resistor; Manufacturer: FOJAN; Manufacturer Part Number: FRC0603F1780TS; Voltage Rating: 75V; Supplier: LCSC; Supplier Part Number: C2933160; Resistance: 178R; Tolerance: 1%; Power: 100mW
footprint RES SMD 0603
pins: 1, 2

## RES 0603 180k 1%
designator C?, comment 180k
180kR 1% 100mW 0603 Thick Film Resistor; Manufacturer: FOJAN; Manufacturer Part Number: FRC0603F1803TS; Voltage Rating: 75V; Supplier: LCSC; Supplier Part Number: C2906999; Resistance: 180k; Tolerance: 1%; Power: 100mW
footprint RES SMD 0603
pins: 1, 2

## RES 0603 180k 5%
designator C?, comment 180k
180kR 5% 100mW 0603 Thick Film Resistor; Manufacturer: FOJAN; Manufacturer Part Number: FRC0603J184 TS; Voltage Rating: 75V; Supplier: LCSC; Supplier Part Number: C2907109; Resistance: 180k; Tolerance: 5%; Power: 100mW
footprint RES SMD 0603
pins: 1, 2

## RES 0603 180mR 1%
designator C?, comment 180mR
180mR 100mW Thick Film Resistor 600ppm/â„ƒ 1% 0603 Chip Resistor - Surface Mount RoHS; Manufacturer: FOJAN; Manufacturer Part Number: FRL0603FR180TS; Supplier: LCSC; Supplier Part Number: C7467900; Resistance: 180mR; Tolerance: 1%; Power: 100mW
footprint RES SMD 0603
pins: 1, 2

## RES 0603 180R 1%
designator C?, comment 180R
180R 1% 100mW 0603 Thick Film Resistor; Manufacturer: FOJAN; Manufacturer Part Number: FRC0603F1800TS; Voltage Rating: 75V; Supplier: LCSC; Supplier Part Number: C2907000; Resistance: 180R; Tolerance: 1%; Power: 100mW
footprint RES SMD 0603
pins: 1, 2

## RES 0603 180R 5%
designator C?, comment 180R
180R 5% 100mW 0603 Thick Film Resistor; Manufacturer: FOJAN; Manufacturer Part Number: FRC0603J181 TS; Voltage Rating: 75V; Supplier: LCSC; Supplier Part Number: C2907110; Resistance: 180R; Tolerance: 5%; Power: 100mW
footprint RES SMD 0603
pins: 1, 2

## RES 0603 182k 1%
designator C?, comment 182k
182kR 1% 100mW 0603 Thick Film Resistor; Manufacturer: FOJAN; Manufacturer Part Number: FRC0603F1823TS; Voltage Rating: 75V; Supplier: LCSC; Supplier Part Number: C5126102; Resistance: 182k; Tolerance: 1%; Power: 100mW
footprint RES SMD 0603
pins: 1, 2

## RES 0603 182R 1%
designator C?, comment 182R
182R 1% 100mW 0603 Thick Film Resistor; Manufacturer: FOJAN; Manufacturer Part Number: FRC0603F1820TS; Voltage Rating: 75V; Supplier: LCSC; Supplier Part Number: C5159698; Resistance: 182R; Tolerance: 1%; Power: 100mW
footprint RES SMD 0603
pins: 1, 2

## RES 0603 187k 1%
designator C?, comment 187k
187kR 1% 100mW 0603 Thick Film Resistor; Manufacturer: FOJAN; Manufacturer Part Number: FRC0603F1873TS; Voltage Rating: 75V; Supplier: LCSC; Supplier Part Number: C3000717; Resistance: 187k; Tolerance: 1%; Power: 100mW
footprint RES SMD 0603
pins: 1, 2

## RES 0603 191k 1%
designator C?, comment 191k
191kR 1% 100mW 0603 Thick Film Resistor; Manufacturer: FOJAN; Manufacturer Part Number: FRC0603F1913TS; Voltage Rating: 75V; Supplier: LCSC; Supplier Part Number: C2974031; Resistance: 191k; Tolerance: 1%; Power: 100mW
footprint RES SMD 0603
pins: 1, 2

## RES 0603 196k 1%
designator C?, comment 196k
196kR 1% 100mW 0603 Thick Film Resistor; Manufacturer: FOJAN; Manufacturer Part Number: FRC0603F1963TS; Voltage Rating: 75V; Supplier: LCSC; Supplier Part Number: C2974032; Resistance: 196k; Tolerance: 1%; Power: 100mW
footprint RES SMD 0603
pins: 1, 2

## RES 0603 196R 1%
designator C?, comment 196R
196R 1% 100mW 0603 Thick Film Resistor; Manufacturer: FOJAN; Manufacturer Part Number: FRC0603F1960TS; Voltage Rating: 75V; Supplier: LCSC; Supplier Part Number: C2930071; Resistance: 196R; Tolerance: 1%; Power: 100mW
footprint RES SMD 0603
pins: 1, 2

## RES 0603 200k 0.5%
designator C?, comment 200k
100mW 200kR 75V Thick Film Resistor 100ppm/â„ƒ 0.5% 0603 Chip Resistor - Surface Mount RoHS; Manufacturer: FOJAN; Manufacturer Part Number: FRH0603D2003TS; Supplier: LCSC; Supplier Part Number: C49196871; Resistance: 200k; Tolerance: 0.5%; Voltage Rating: 75V; Power: 100mW
footprint RES SMD 0603
pins: 1, 2

## RES 0603 200k 1%
designator C?, comment 200k
200kR 1% 100mW 0603 Thick Film Resistor; Manufacturer: FOJAN; Manufacturer Part Number: FRC0603F2003TS; Voltage Rating: 75V; Supplier: LCSC; Supplier Part Number: C2907009; Resistance: 200k; Tolerance: 1%; Power: 100mW
footprint RES SMD 0603
pins: 1, 2

## RES 0603 200k 1%_1
designator C?, comment 200k
200kR 1% 100mW 0603 Thick Film Resistor; Manufacturer: FOJAN; Manufacturer Part Number: FRQ0603F2003TS; Voltage Rating: 75V; Supplier: LCSC; Supplier Part Number: C42372215; Resistance: 200k; Tolerance: 1%; Power: 100mW
footprint RES SMD 0603
pins: 1, 2

## RES 0603 200k 1%_2
designator C?, comment 200k
100mW 200kR 75V Thick Film Resistor 100ppm/â„ƒ 1% 0603 Chip Resistor - Surface Mount RoHS; Manufacturer: FOJAN; Manufacturer Part Number: FRR0603F2003TS; Supplier: LCSC; Supplier Part Number: C49196764; Resistance: 200k; Tolerance: 1%; Voltage Rating: 75V; Power: 100mW
footprint RES SMD 0603
pins: 1, 2

## RES 0603 200k 5%
designator C?, comment 200k
200kR 5% 100mW 0603 Thick Film Resistor; Manufacturer: FOJAN; Manufacturer Part Number: FRC0603J204 TS; Voltage Rating: 75V; Supplier: LCSC; Supplier Part Number: C2907122; Resistance: 200k; Tolerance: 5%; Power: 100mW
footprint RES SMD 0603
pins: 1, 2

## RES 0603 200mR 1%
designator C?, comment 200mR
200mR 1% 100mW 0603 Thick Film Resistor; Manufacturer: FOJAN; Manufacturer Part Number: FRL0603FR200TS; Voltage Rating: 100V; Supplier: LCSC; Supplier Part Number: C3013346; Resistance: 200mR; Tolerance: 1%; Power: 100mW
footprint RES SMD 0603
pins: 1, 2

## RES 0603 200mR 5%
designator C?, comment 200mR
200mR 5% 100mW 0603 Thick Film Resistor; Manufacturer: FOJAN; Manufacturer Part Number: FRL0603JR200TS; Voltage Rating: 100V; Supplier: LCSC; Supplier Part Number: C3013352; Resistance: 200mR; Tolerance: 5%; Power: 100mW
footprint RES SMD 0603
pins: 1, 2

## RES 0603 200R 1%
designator C?, comment 200R
200R 1% 100mW 0603 Thick Film Resistor; Manufacturer: FOJAN; Manufacturer Part Number: FRC0603F2000TS; Voltage Rating: 75V; Supplier: LCSC; Supplier Part Number: C2907010; Resistance: 200R; Tolerance: 1%; Power: 100mW
footprint RES SMD 0603
pins: 1, 2

## RES 0603 200R 5%
designator C?, comment 200R
200R 5% 100mW 0603 Thick Film Resistor; Manufacturer: FOJAN; Manufacturer Part Number: FRC0603J201 TS; Voltage Rating: 75V; Supplier: LCSC; Supplier Part Number: C2907123; Resistance: 200R; Tolerance: 5%; Power: 100mW
footprint RES SMD 0603
pins: 1, 2

## RES 0603 200R 5%_1
designator C?, comment 200R
200R 5% 100mW 0603 Thick Film Resistor AEC-Q200; Manufacturer: FOJAN; Manufacturer Part Number: FRQ0603J201 TS; Voltage Rating: 75V; Supplier: LCSC; Supplier Part Number: C5713444; Resistance: 200R; Tolerance: 5%; Power: 100mW
footprint RES SMD 0603
pins: 1, 2

## RES 0603 205k 1%
designator C?, comment 205k
205kR 1% 100mW 0603 Thick Film Resistor; Manufacturer: FOJAN; Manufacturer Part Number: FRC0603F2053TS; Voltage Rating: 75V; Supplier: LCSC; Supplier Part Number: C5126104; Resistance: 205k; Tolerance: 1%; Power: 100mW
footprint RES SMD 0603
pins: 1, 2

## RES 0603 205R 1%
designator C?, comment 205R
205R 100mW 75V Thick Film Resistor 100ppm/â„ƒ 1% 0603 Chip Resistor - Surface Mount RoHS; Manufacturer: FOJAN; Manufacturer Part Number: FRC0603F2050TS; Supplier: LCSC; Supplier Part Number: C51048214; Resistance: 205R; Tolerance: 1%; Voltage Rating: 75V; Power: 100mW
footprint RES SMD 0603
pins: 1, 2

## RES 0603 210k 0.25%
designator C?, comment 210k
210kR 100mW Thick Film Resistor 100ppm/â„ƒ 0.25% 0603 Chip Resistor - Surface Mount RoHS; Manufacturer: FOJAN; Manufacturer Part Number: FRH0603D2103TS; Supplier: LCSC; Supplier Part Number: C42372205; Resistance: 210k; Tolerance: 0.25%; Power: 100mW
footprint RES SMD 0603
pins: 1, 2

## RES 0603 210k 1%
designator C?, comment 210k
210kR 1% 100mW 0603 Thick Film Resistor; Manufacturer: FOJAN; Manufacturer Part Number: FRC0603F2103TS; Voltage Rating: 75V; Supplier: LCSC; Supplier Part Number: C2933168; Resistance: 210k; Tolerance: 1%; Power: 100mW
footprint RES SMD 0603
pins: 1, 2

## RES 0603 215k 1%
designator C?, comment 215k
215kR 1% 100mW 0603 Thick Film Resistor; Manufacturer: FOJAN; Manufacturer Part Number: FRC0603F2153TS; Voltage Rating: 75V; Supplier: LCSC; Supplier Part Number: C5713280; Resistance: 215k; Tolerance: 1%; Power: 100mW
footprint RES SMD 0603
pins: 1, 2

## RES 0603 215R 1%
designator C?, comment 215R
215R 1% 100mW 0603 Thick Film Resistor; Manufacturer: FOJAN; Manufacturer Part Number: FRC0603F2150TS; Voltage Rating: 75V; Supplier: LCSC; Supplier Part Number: C2930075; Resistance: 215R; Tolerance: 1%; Power: 100mW
footprint RES SMD 0603
pins: 1, 2

## RES 0603 220k 1%
designator C?, comment 220k
220kR 1% 100mW 0603 Thick Film Resistor; Manufacturer: FOJAN; Manufacturer Part Number: FRC0603F2203TS; Voltage Rating: 75V; Supplier: LCSC; Supplier Part Number: C2907013; Resistance: 220k; Tolerance: 1%; Power: 100mW
footprint RES SMD 0603
pins: 1, 2

## RES 0603 220k 1%_1
designator C?, comment 220k
100mW 220kR 75V Thick Film Resistor 1% 0603 Chip Resistor - Surface Mount RoHS; Manufacturer: FOJAN; Manufacturer Part Number: FRR0603F2203TS; Supplier: LCSC; Supplier Part Number: C51048222; Resistance: 220k; Tolerance: 1%; Voltage Rating: 75V; Power: 100mW
footprint RES SMD 0603
pins: 1, 2

## RES 0603 220k 5%
designator C?, comment 220k
220kR 5% 100mW 0603 Thick Film Resistor; Manufacturer: FOJAN; Manufacturer Part Number: FRC0603J224 TS; Voltage Rating: 75V; Supplier: LCSC; Supplier Part Number: C2907126; Resistance: 220k; Tolerance: 5%; Power: 100mW
footprint RES SMD 0603
pins: 1, 2

## RES 0603 220mR 1%
designator C?, comment 220mR
220mR 1% 100mW 0603 Thick Film Resistor; Manufacturer: FOJAN; Manufacturer Part Number: FRL0603FR220TS; Voltage Rating: 100V; Supplier: LCSC; Supplier Part Number: C3013347; Resistance: 220mR; Tolerance: 1%; Power: 100mW
footprint RES SMD 0603
pins: 1, 2

## RES 0603 220mR 5%
designator C?, comment 220mR
220mR 5% 100mW 0603 Thick Film Resistor; Manufacturer: FOJAN; Manufacturer Part Number: FRL0603JR220TS; Voltage Rating: 100V; Supplier: LCSC; Supplier Part Number: C5126027; Resistance: 220mR; Tolerance: 5%; Power: 100mW
footprint RES SMD 0603
pins: 1, 2

## RES 0603 220R 1%
designator C?, comment 220R
220R 1% 100mW 0603 Thick Film Resistor; Manufacturer: FOJAN; Manufacturer Part Number: FRC0603F2200TS; Voltage Rating: 75V; Supplier: LCSC; Supplier Part Number: C2907014; Resistance: 220R; Tolerance: 1%; Power: 100mW
footprint RES SMD 0603
pins: 1, 2

## RES 0603 220R 5%
designator C?, comment 220R
220R 5% 100mW 0603 Thick Film Resistor; Manufacturer: FOJAN; Manufacturer Part Number: FRC0603J221 TS; Voltage Rating: 75V; Supplier: LCSC; Supplier Part Number: C2907127; Resistance: 220R; Tolerance: 5%; Power: 100mW
footprint RES SMD 0603
pins: 1, 2

## RES 0603 221k 1%
designator C?, comment 221k
100mW 221kR 75V Thick Film Resistor 1% 100ppm/â„ƒ 0603 Chip Resistor - Surface Mount RoHS; Manufacturer: FOJAN; Manufacturer Part Number: FRC0603F2213TS; Supplier: LCSC; Supplier Part Number: C7467463; Resistance: 221k; Tolerance: 1%; Voltage Rating: 75V; Power: 100mW
footprint RES SMD 0603
pins: 1, 2

## RES 0603 226k 1%
designator C?, comment 226k
226kR 1% 100mW 0603 Thick Film Resistor; Manufacturer: FOJAN; Manufacturer Part Number: FRC0603F2263TS; Voltage Rating: 75V; Supplier: LCSC; Supplier Part Number: C5713282; Resistance: 226k; Tolerance: 1%; Power: 100mW
footprint RES SMD 0603
pins: 1, 2

## RES 0603 237k 1%
designator C?, comment 237k
237kR 1% 100mW 0603 Thick Film Resistor; Manufacturer: FOJAN; Manufacturer Part Number: FRC0603F2373TS; Voltage Rating: 75V; Supplier: LCSC; Supplier Part Number: C2998117; Resistance: 237k; Tolerance: 1%; Power: 100mW
footprint RES SMD 0603
pins: 1, 2

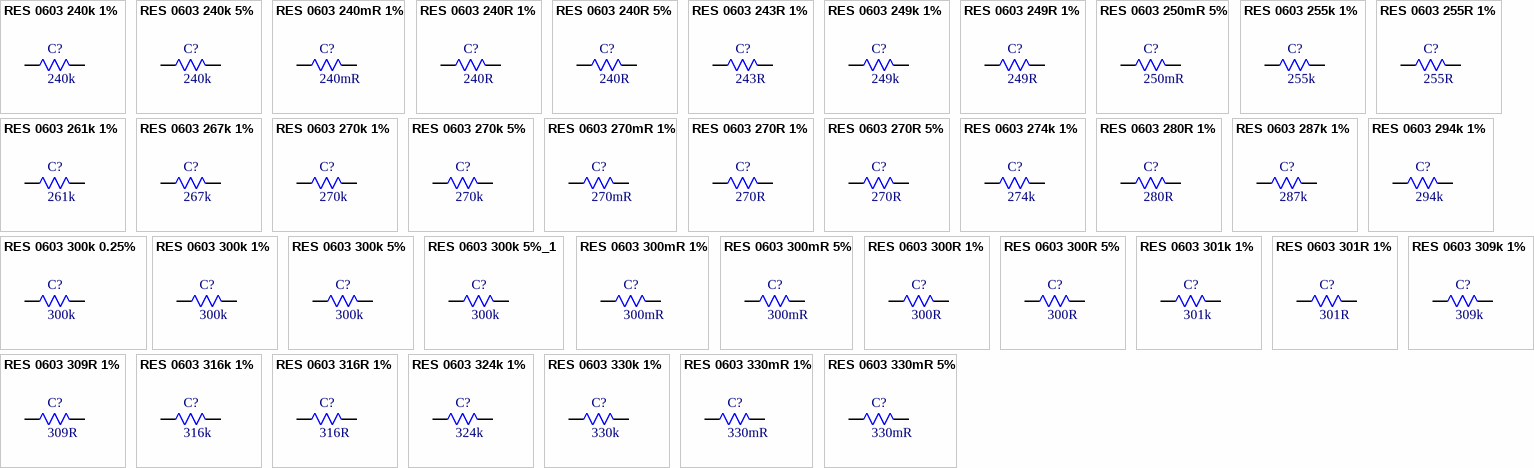
[diagram p31: symbols RES 0603 240k 1% to RES 0603 330mR 5%]

## RES 0603 240k 1%
designator C?, comment 240k
240kR 1% 100mW 0603 Thick Film Resistor; Manufacturer: FOJAN; Manufacturer Part Number: FRC0603F2403TS; Voltage Rating: 75V; Supplier: LCSC; Supplier Part Number: C2907016; Resistance: 240k; Tolerance: 1%; Power: 100mW
footprint RES SMD 0603
pins: 1, 2

## RES 0603 240k 5%
designator C?, comment 240k
240kR 5% 100mW 0603 Thick Film Resistor; Manufacturer: FOJAN; Manufacturer Part Number: FRC0603J244TS; Voltage Rating: 75V; Supplier: LCSC; Supplier Part Number: C2930036; Resistance: 240k; Tolerance: 5%; Power: 100mW
footprint RES SMD 0603
pins: 1, 2

## RES 0603 240mR 1%
designator C?, comment 240mR
240mR 1% 100mW 0603 Thick Film Resistor; Manufacturer: FOJAN; Manufacturer Part Number: FRL0603FR240TS; Voltage Rating: 100V; Supplier: LCSC; Supplier Part Number: C5713389; Resistance: 240mR; Tolerance: 1%; Power: 100mW
footprint RES SMD 0603
pins: 1, 2

## RES 0603 240R 1%
designator C?, comment 240R
240R 1% 100mW 0603 Thick Film Resistor; Manufacturer: FOJAN; Manufacturer Part Number: FRC0603F2400TS; Voltage Rating: 75V; Supplier: LCSC; Supplier Part Number: C2907017; Resistance: 240R; Tolerance: 1%; Power: 100mW
footprint RES SMD 0603
pins: 1, 2

## RES 0603 240R 5%
designator C?, comment 240R
240R 5% 100mW 0603 Thick Film Resistor; Manufacturer: FOJAN; Manufacturer Part Number: FRC0603J241 TS; Voltage Rating: 75V; Supplier: LCSC; Supplier Part Number: C2907130; Resistance: 240R; Tolerance: 5%; Power: 100mW
footprint RES SMD 0603
pins: 1, 2

## RES 0603 243R 1%
designator C?, comment 243R
100mW 243R 75V Thick Film Resistor 100ppm/â„ƒ 1% 0603 Chip Resistor - Surface Mount RoHS; Manufacturer: FOJAN; Manufacturer Part Number: FRC0603F2430TS; Supplier: LCSC; Supplier Part Number: C18164293; Resistance: 243R; Tolerance: 1%; Voltage Rating: 75V; Power: 100mW
footprint RES SMD 0603
pins: 1, 2

## RES 0603 249k 1%
designator C?, comment 249k
249kR 1% 100mW 0603 Thick Film Resistor; Manufacturer: FOJAN; Manufacturer Part Number: FRC0603F2493TS; Voltage Rating: 75V; Supplier: LCSC; Supplier Part Number: C2933177; Resistance: 249k; Tolerance: 1%; Power: 100mW
footprint RES SMD 0603
pins: 1, 2

## RES 0603 249R 1%
designator C?, comment 249R
249R 1% 100mW 0603 Thick Film Resistor; Manufacturer: FOJAN; Manufacturer Part Number: FRC0603F2490TS; Voltage Rating: 75V; Supplier: LCSC; Supplier Part Number: C2933176; Resistance: 249R; Tolerance: 1%; Power: 100mW
footprint RES SMD 0603
pins: 1, 2

## RES 0603 250mR 5%
designator C?, comment 250mR
250mR 5% 100mW 0603 Thick Film Resistor; Manufacturer: FOJAN; Manufacturer Part Number: FRL0603JR250TS; Voltage Rating: 100V; Supplier: LCSC; Supplier Part Number: C5126046; Resistance: 250mR; Tolerance: 5%; Power: 100mW
footprint RES SMD 0603
pins: 1, 2

## RES 0603 255k 1%
designator C?, comment 255k
255kR 1% 100mW 0603 Thick Film Resistor; Manufacturer: FOJAN; Manufacturer Part Number: FRC0603F2553TS; Voltage Rating: 75V; Supplier: LCSC; Supplier Part Number: C2933180; Resistance: 255k; Tolerance: 1%; Power: 100mW
footprint RES SMD 0603
pins: 1, 2

## RES 0603 255R 1%
designator C?, comment 255R
255R 1% 100mW 0603 Thick Film Resistor; Manufacturer: FOJAN; Manufacturer Part Number: FRC0603F2550TS; Voltage Rating: 75V; Supplier: LCSC; Supplier Part Number: C2929996; Resistance: 255R; Tolerance: 1%; Power: 100mW
footprint RES SMD 0603
pins: 1, 2

## RES 0603 261k 1%
designator C?, comment 261k
261kR 1% 100mW 0603 Thick Film Resistor; Manufacturer: FOJAN; Manufacturer Part Number: FRC0603F2613TS; Voltage Rating: 75V; Supplier: LCSC; Supplier Part Number: C2930083; Resistance: 261k; Tolerance: 1%; Power: 100mW
footprint RES SMD 0603
pins: 1, 2

## RES 0603 267k 1%
designator C?, comment 267k
267kR 1% 100mW 0603 Thick Film Resistor; Manufacturer: FOJAN; Manufacturer Part Number: FRC0603F2673TS; Voltage Rating: 75V; Supplier: LCSC; Supplier Part Number: C2998118; Resistance: 267k; Tolerance: 1%; Power: 100mW
footprint RES SMD 0603
pins: 1, 2

## RES 0603 270k 1%
designator C?, comment 270k
270kR 1% 100mW 0603 Thick Film Resistor; Manufacturer: FOJAN; Manufacturer Part Number: FRC0603F2703TS; Voltage Rating: 75V; Supplier: LCSC; Supplier Part Number: C2907019; Resistance: 270k; Tolerance: 1%; Power: 100mW
footprint RES SMD 0603
pins: 1, 2

## RES 0603 270k 5%
designator C?, comment 270k
270kR 5% 100mW 0603 Thick Film Resistor; Manufacturer: FOJAN; Manufacturer Part Number: FRC0603J274 TS; Voltage Rating: 75V; Supplier: LCSC; Supplier Part Number: C2907133; Resistance: 270k; Tolerance: 5%; Power: 100mW
footprint RES SMD 0603
pins: 1, 2

## RES 0603 270mR 1%
designator C?, comment 270mR
270mR 100mW Thick Film Resistor 300ppm/â„ƒ 1% 0603 Chip Resistor - Surface Mount RoHS; Manufacturer: FOJAN; Manufacturer Part Number: FRL0603FR270TS; Supplier: LCSC; Supplier Part Number: C7467369; Resistance: 270mR; Tolerance: 1%; Power: 100mW
footprint RES SMD 0603
pins: 1, 2

## RES 0603 270R 1%
designator C?, comment 270R
270R 1% 100mW 0603 Thick Film Resistor; Manufacturer: FOJAN; Manufacturer Part Number: FRC0603F2700TS; Voltage Rating: 75V; Supplier: LCSC; Supplier Part Number: C2907020; Resistance: 270R; Tolerance: 1%; Power: 100mW
footprint RES SMD 0603
pins: 1, 2

## RES 0603 270R 5%
designator C?, comment 270R
270R 5% 100mW 0603 Thick Film Resistor; Manufacturer: FOJAN; Manufacturer Part Number: FRC0603J271 TS; Voltage Rating: 75V; Supplier: LCSC; Supplier Part Number: C2907134; Resistance: 270R; Tolerance: 5%; Power: 100mW
footprint RES SMD 0603
pins: 1, 2

## RES 0603 274k 1%
designator C?, comment 274k
274kR 1% 100mW 0603 Thick Film Resistor; Manufacturer: FOJAN; Manufacturer Part Number: FRC0603F2743TS; Voltage Rating: 75V; Supplier: LCSC; Supplier Part Number: C5126128; Resistance: 274k; Tolerance: 1%; Power: 100mW
footprint RES SMD 0603
pins: 1, 2

## RES 0603 280R 1%
designator C?, comment 280R
280R 1% 100mW 0603 Thick Film Resistor; Manufacturer: FOJAN; Manufacturer Part Number: FRC0603F2800TS; Voltage Rating: 75V; Supplier: LCSC; Supplier Part Number: C2933187; Resistance: 280R; Tolerance: 1%; Power: 100mW
footprint RES SMD 0603
pins: 1, 2

## RES 0603 287k 1%
designator C?, comment 287k
287kR 1% 100mW 0603 Thick Film Resistor; Manufacturer: FOJAN; Manufacturer Part Number: FRC0603F2873TS; Voltage Rating: 75V; Supplier: LCSC; Supplier Part Number: C5159700; Resistance: 287k; Tolerance: 1%; Power: 100mW
footprint RES SMD 0603
pins: 1, 2

## RES 0603 294k 1%
designator C?, comment 294k
294kR 1% 100mW 0603 Thick Film Resistor; Manufacturer: FOJAN; Manufacturer Part Number: FRC0603F2943TS; Voltage Rating: 75V; Supplier: LCSC; Supplier Part Number: C2999562; Resistance: 294k; Tolerance: 1%; Power: 100mW
footprint RES SMD 0603
pins: 1, 2

## RES 0603 300k 0.25%
designator C?, comment 300k
300kR 100mW Thick Film Resistor 100ppm/â„ƒ 0.25% 0603 Chip Resistor - Surface Mount RoHS; Manufacturer: FOJAN; Manufacturer Part Number: FRH0603D3003TS; Supplier: LCSC; Supplier Part Number: C42372206; Resistance: 300k; Tolerance: 0.25%; Power: 100mW
footprint RES SMD 0603
pins: 1, 2

## RES 0603 300k 1%
designator C?, comment 300k
300kR 1% 100mW 0603 Thick Film Resistor; Manufacturer: FOJAN; Manufacturer Part Number: FRC0603F3003TS; Voltage Rating: 75V; Supplier: LCSC; Supplier Part Number: C2930091; Resistance: 300k; Tolerance: 1%; Power: 100mW
footprint RES SMD 0603
pins: 1, 2

## RES 0603 300k 5%
designator C?, comment 300k
300kR 5% 100mW 0603 Thick Film Resistor; Manufacturer: FOJAN; Manufacturer Part Number: FRC0603J304 TS; Voltage Rating: 75V; Supplier: LCSC; Supplier Part Number: C2907147; Resistance: 300k; Tolerance: 5%; Power: 100mW
footprint RES SMD 0603
pins: 1, 2

## RES 0603 300k 5%_1
designator C?, comment 300k
300kR 100mW Thick Film Resistor 5% 100ppm/â„ƒ 0603 Chip Resistor - Surface Mount RoHS; Manufacturer: FOJAN; Manufacturer Part Number: FRQ0603J304 TS; Supplier: LCSC; Supplier Part Number: C7468400; Resistance: 300k; Tolerance: 5%; Power: 100mW
footprint RES SMD 0603
pins: 1, 2

## RES 0603 300mR 1%
designator C?, comment 300mR
300mR 1% 100mW 0603 Thick Film Resistor; Manufacturer: FOJAN; Manufacturer Part Number: FRL0603FR300TS; Voltage Rating: 100V; Supplier: LCSC; Supplier Part Number: C2934251; Resistance: 300mR; Tolerance: 1%; Power: 100mW
footprint RES SMD 0603
pins: 1, 2

## RES 0603 300mR 5%
designator C?, comment 300mR
300mR 5% 100mW 0603 Thick Film Resistor; Manufacturer: FOJAN; Manufacturer Part Number: FRL0603JR300TS; Voltage Rating: 100V; Supplier: LCSC; Supplier Part Number: C2934256; Resistance: 300mR; Tolerance: 5%; Power: 100mW
footprint RES SMD 0603
pins: 1, 2

## RES 0603 300R 1%
designator C?, comment 300R
300R 1% 100mW 0603 Thick Film Resistor; Manufacturer: FOJAN; Manufacturer Part Number: FRC0603F3000TS; Voltage Rating: 75V; Supplier: LCSC; Supplier Part Number: C2930092; Resistance: 300R; Tolerance: 1%; Power: 100mW
footprint RES SMD 0603
pins: 1, 2

## RES 0603 300R 5%
designator C?, comment 300R
300R 5% 100mW 0603 Thick Film Resistor; Manufacturer: FOJAN; Manufacturer Part Number: FRC0603J301 TS; Voltage Rating: 75V; Supplier: LCSC; Supplier Part Number: C2907148; Resistance: 300R; Tolerance: 5%; Power: 100mW
footprint RES SMD 0603
pins: 1, 2

## RES 0603 301k 1%
designator C?, comment 301k
301kR 1% 100mW 0603 Thick Film Resistor; Manufacturer: FOJAN; Manufacturer Part Number: FRC0603F3013TS; Voltage Rating: 75V; Supplier: LCSC; Supplier Part Number: C2933194; Resistance: 301k; Tolerance: 1%; Power: 100mW
footprint RES SMD 0603
pins: 1, 2

## RES 0603 301R 1%
designator C?, comment 301R
301R 1% 100mW 0603 Thick Film Resistor; Manufacturer: FOJAN; Manufacturer Part Number: FRC0603F3010TS; Voltage Rating: 75V; Supplier: LCSC; Supplier Part Number: C2933192; Resistance: 301R; Tolerance: 1%; Power: 100mW
footprint RES SMD 0603
pins: 1, 2

## RES 0603 309k 1%
designator C?, comment 309k
309kR 1% 100mW 0603 Thick Film Resistor; Manufacturer: FOJAN; Manufacturer Part Number: FRC0603F3093TS; Voltage Rating: 75V; Supplier: LCSC; Supplier Part Number: C2999532; Resistance: 309k; Tolerance: 1%; Power: 100mW
footprint RES SMD 0603
pins: 1, 2

## RES 0603 309R 1%
designator C?, comment 309R
309R 1% 100mW 0603 Thick Film Resistor; Manufacturer: FOJAN; Manufacturer Part Number: FRC0603F3090TS; Voltage Rating: 75V; Supplier: LCSC; Supplier Part Number: C5204000; Resistance: 309R; Tolerance: 1%; Power: 100mW
footprint RES SMD 0603
pins: 1, 2

## RES 0603 316k 1%
designator C?, comment 316k
316kR 1% 100mW 0603 Thick Film Resistor; Manufacturer: FOJAN; Manufacturer Part Number: FRC0603F3163TS; Voltage Rating: 75V; Supplier: LCSC; Supplier Part Number: C2998125; Resistance: 316k; Tolerance: 1%; Power: 100mW
footprint RES SMD 0603
pins: 1, 2